# Altium schematic symbol library Ferrite Chip.SchLib: 462 symbols (part 7 of 7)
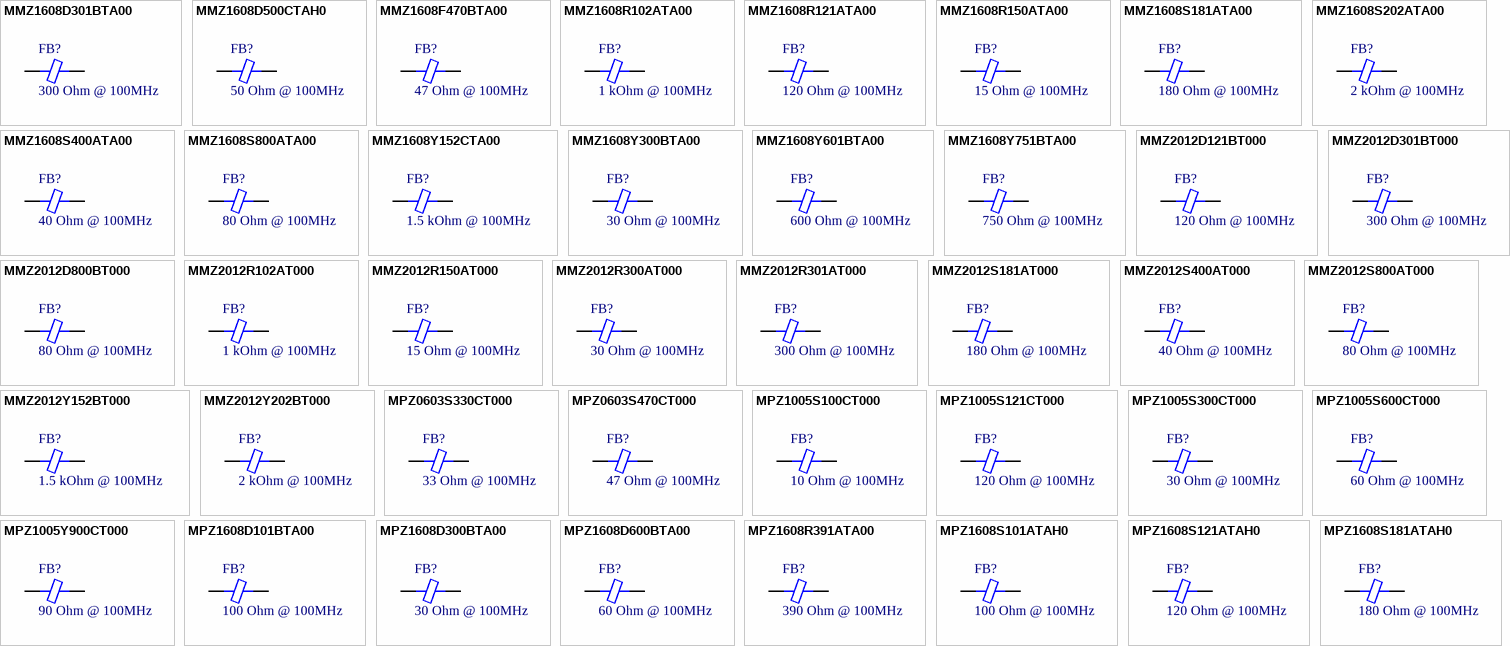
[diagram p17: symbols MMZ1608D301BTA00 to MPZ1608S181ATAH0]

## MMZ2012R150AT000
designator FB?, comment 15 Ohm @ 100MHz
FERRITE CHIP 15 OHM 0805; Part Number: MMZ2012R150AT000; Manufacturer: TDK Corporation; Type: Differential Mode - Single; DC Resistance: 50 mOhm Max; Current Rating: 1.5A; PartId: 6803; Value: 15 Ohm @ 100MHz; Supplier 1: Digi-Key; Supplier Part Number 1: 445-2198-2-ND; ComponentLink1Description: Datasheet; ComponentLink1URL: https://product.tdk.com/info/en/catalog/datasheets/beads_commercial_signal_mmz2012_en.pdf; ComponentLink2Description: Digi-Key listing; ComponentLink2URL: http://digikey.com/product-detail/en/MMZ2012R150AT000/445-2198-2-ND/765057; Price: 0.0344; Device Package: 0805 (2012 Metric)
footprint FER 0805/2012
pins: 1, 2

## MMZ2012R300AT000
designator FB?, comment 30 Ohm @ 100MHz
FERRITE CHIP 30 OHM 0805; Part Number: MMZ2012R300AT000; Manufacturer: TDK Corporation; Type: Differential Mode - Single; DC Resistance: 50 mOhm Max; Current Rating: 1.5A; PartId: 6802; Value: 30 Ohm @ 100MHz; Supplier 1: Digi-Key; Supplier Part Number 1: 445-2199-2-ND; ComponentLink1Description: Datasheet; ComponentLink1URL: https://product.tdk.com/info/en/catalog/datasheets/beads_commercial_signal_mmz2012_en.pdf; ComponentLink2Description: Digi-Key listing; ComponentLink2URL: http://digikey.com/product-detail/en/MMZ2012R300AT000/445-2199-2-ND/765058; Price: 0.0344; Device Package: 0805 (2012 Metric)
footprint FER 0805/2012
pins: 1, 2

## MMZ2012R301AT000
designator FB?, comment 300 Ohm @ 100MHz
FERRITE CHIP 300 OHM 600MA 0805; Part Number: MMZ2012R301AT000; Manufacturer: TDK Corporation; Type: Differential Mode - Single; DC Resistance: 150 mOhm Max; PartId: 6797; Value: 300 Ohm @ 100MHz; Supplier 1: Digi-Key; Supplier Part Number 1: 445-2191-2-ND; ComponentLink1Description: Datasheet; ComponentLink1URL: https://product.tdk.com/info/en/catalog/datasheets/beads_commercial_signal_mmz2012_en.pdf; ComponentLink2Description: Digi-Key listing; ComponentLink2URL: http://digikey.com/product-detail/en/MMZ2012R301AT000/445-2191-2-ND/600549; Price: 0.0344; Device Package: 0805 (2012 Metric); Current Rating: 600mA
footprint FER 0805/2012
pins: 1, 2

## MMZ2012S181AT000
designator FB?, comment 180 Ohm @ 100MHz
FERRITE CHIP 180 OHM 600MA 0805; Part Number: MMZ2012S181AT000; Manufacturer: TDK Corporation; Type: Differential Mode - Single; DC Resistance: 150 mOhm Max; PartId: 6805; Value: 180 Ohm @ 100MHz; Supplier 1: Digi-Key; Supplier Part Number 1: 445-2194-2-ND; ComponentLink1Description: Datasheet; ComponentLink1URL: https://product.tdk.com/info/en/catalog/datasheets/beads_commercial_signal_mmz2012_en.pdf; ComponentLink2Description: Digi-Key listing; ComponentLink2URL: http://digikey.com/product-detail/en/MMZ2012S181AT000/445-2194-2-ND/600551; Price: 0.0344; Device Package: 0805 (2012 Metric); Current Rating: 600mA
footprint FER 0805/2012
pins: 1, 2

## MMZ2012S400AT000
designator FB?, comment 40 Ohm @ 100MHz
FERRITE CHIP 40 OHM 0805; Part Number: MMZ2012S400AT000; Manufacturer: TDK Corporation; Type: Differential Mode - Single; DC Resistance: 100 mOhm Max; Current Rating: 1A; PartId: 6800; Value: 40 Ohm @ 100MHz; Supplier 1: Digi-Key; Supplier Part Number 1: 445-2201-2-ND; ComponentLink1Description: Datasheet; ComponentLink1URL: https://product.tdk.com/info/en/catalog/datasheets/beads_commercial_signal_mmz2012_en.pdf; ComponentLink2Description: Digi-Key listing; ComponentLink2URL: http://digikey.com/product-detail/en/MMZ2012S400AT000/445-2201-2-ND/765060; Price: 0.0344; Device Package: 0805 (2012 Metric)
footprint FER 0805/2012
pins: 1, 2

## MMZ2012S800AT000
designator FB?, comment 80 Ohm @ 100MHz
FERRITE CHIP 80 OHM 800MA 0805; Part Number: MMZ2012S800AT000; Manufacturer: TDK Corporation; Type: Differential Mode - Single; DC Resistance: 100 mOhm Max; PartId: 6804; Value: 80 Ohm @ 100MHz; Supplier 1: Digi-Key; Supplier Part Number 1: 445-2192-2-ND; ComponentLink1Description: Datasheet; ComponentLink1URL: https://product.tdk.com/info/en/catalog/datasheets/beads_commercial_signal_mmz2012_en.pdf; ComponentLink2Description: Digi-Key listing; ComponentLink2URL: http://digikey.com/product-detail/en/MMZ2012S800AT000/445-2192-2-ND/600553; Price: 0.0344; Device Package: 0805 (2012 Metric); Current Rating: 800mA
footprint FER 0805/2012
pins: 1, 2

## MMZ2012Y152BT000
designator FB?, comment 1.5 kOhm @ 100MHz
FERRITE CHIP 1500 OHM 500MA 0805; Part Number: MMZ2012Y152BT000; Manufacturer: TDK Corporation; Type: Differential Mode - Single; DC Resistance: 400 mOhm Max; PartId: 6801; Value: 1.5 kOhm @ 100MHz; Supplier 1: Digi-Key; Supplier Part Number 1: 445-1560-2-ND; ComponentLink1Description: Datasheet; ComponentLink1URL: https://product.tdk.com/info/en/catalog/datasheets/beads_commercial_signal_mmz2012_en.pdf; ComponentLink2Description: Digi-Key listing; ComponentLink2URL: http://digikey.com/product-detail/en/MMZ2012Y152BT000/445-1560-2-ND/571867; Price: 0.0344; Device Package: 0805 (2012 Metric); Current Rating: 500mA
footprint FER 0805/2012
pins: 1, 2

## MMZ2012Y202BT000
designator FB?, comment 2 kOhm @ 100MHz
FERRITE CHIP 2000 OHM 400MA 0805; Part Number: MMZ2012Y202BT000; Manufacturer: TDK Corporation; Type: Differential Mode - Single; DC Resistance: 500 mOhm Max; PartId: 6798; Value: 2 kOhm @ 100MHz; Supplier 1: Digi-Key; Supplier Part Number 1: 445-1561-2-ND; ComponentLink1Description: Datasheet; ComponentLink1URL: https://product.tdk.com/info/en/catalog/datasheets/beads_commercial_signal_mmz2012_en.pdf; ComponentLink2Description: Digi-Key listing; ComponentLink2URL: http://digikey.com/product-detail/en/MMZ2012Y202BT000/445-1561-2-ND/571868; Price: 0.0344; Device Package: 0805 (2012 Metric); Current Rating: 400mA
footprint FER 0805/2012
pins: 1, 2

## MPZ0603S330CT000
designator FB?, comment 33 Ohm @ 100MHz
FERRITE BEAD 33 OHM 0201 1LN; Part Number: MPZ0603S330CT000; Manufacturer: TDK Corporation; DC Resistance: 90 mOhm; Current Rating: 750mA; PartId: 20395; Value: 33 Ohm @ 100MHz; Supplier 1: Digi-Key; Supplier Part Number 1: 445-7794-2-ND; ComponentLink1Description: Datasheet; ComponentLink1URL: https://product.tdk.com/info/en/catalog/datasheets/beads_commercial_power_mpz0603_en.pdf; ComponentLink2Description: Digi-Key Listing; ComponentLink2URL: https://www.digikey.com/product-detail/en/tdk-corporation/MPZ0603S330CT000/445-7794-2-ND/2747664; Price: 0.0367; Device Package: 0201 (0603 Metric)
footprint FER 0201/0603
pins: 1, 2

## MPZ0603S470CT000
designator FB?, comment 47 Ohm @ 100MHz
FERRITE BEAD 47 OHM 0201 1LN; Part Number: MPZ0603S470CT000; Manufacturer: TDK Corporation; DC Resistance: 120 mOhm; Current Rating: 500mA; PartId: 20378; Value: 47 Ohm @ 100MHz; Supplier 1: Digi-Key; Supplier Part Number 1: 445-7795-2-ND; ComponentLink1Description: Datasheet; ComponentLink1URL: https://product.tdk.com/info/en/catalog/datasheets/beads_commercial_power_mpz0603_en.pdf; ComponentLink2Description: Digi-Key Listing; ComponentLink2URL: https://www.digikey.com/product-detail/en/tdk-corporation/MPZ0603S470CT000/445-7795-2-ND/2747665; Price: 0.0367; Device Package: 0201 (0603 Metric)
footprint FER 0201/0603
pins: 1, 2

## MPZ1005S100CT000
designator FB?, comment 10 Ohm @ 100MHz
FERRITE CHIP 10 OHM 2A 0402; Part Number: MPZ1005S100CT000; Manufacturer: TDK Corporation; Type: Differential Mode - Single; DC Resistance: 25 mOhm Max; PartId: 6503; Value: 10 Ohm @ 100MHz; Supplier 1: Digi-Key; Supplier Part Number 1: 445-2978-2-ND; ComponentLink1Description: Datasheet; ComponentLink1URL: https://product.tdk.com/info/en/catalog/datasheets/beads_commercial_power_mpz1005_en.pdf; ComponentLink2Description: Digi-Key listing; ComponentLink2URL: http://digikey.com/product-detail/en/MPZ1005S100CT000/445-2978-2-ND/1084510; Price: 0.0301; Device Package: 0402 (1005 Metric); Current Rating: 2A
footprint FER 0402/1005
pins: 1, 2

## MPZ1005S121CT000
designator FB?, comment 120 Ohm @ 100MHz
FERRITE CHIP 120 OHM 1.2A 0402; Part Number: MPZ1005S121CT000; Manufacturer: TDK Corporation; Type: Differential Mode - Single; DC Resistance: 90 mOhm Max; PartId: 6501; Value: 120 Ohm @ 100MHz; Supplier 1: Digi-Key; Supplier Part Number 1: 445-2981-2-ND; ComponentLink1Description: Datasheet; ComponentLink1URL: https://product.tdk.com/info/en/catalog/datasheets/beads_commercial_power_mpz1005_en.pdf; ComponentLink2Description: Digi-Key listing; ComponentLink2URL: http://digikey.com/product-detail/en/MPZ1005S121CT000/445-2981-2-ND/1084513; Price: 0.0301; Device Package: 0402 (1005 Metric); Current Rating: 1.2A
footprint FER 0402/1005
pins: 1, 2

## MPZ1005S300CT000
designator FB?, comment 30 Ohm @ 100MHz
FERRITE CHIP 30 OHM 1.7A 0402; Part Number: MPZ1005S300CT000; Manufacturer: TDK Corporation; Type: Differential Mode - Single; DC Resistance: 35 mOhm Max; PartId: 6502; Value: 30 Ohm @ 100MHz; Supplier 1: Digi-Key; Supplier Part Number 1: 445-2979-2-ND; ComponentLink1Description: Datasheet; ComponentLink1URL: https://product.tdk.com/info/en/catalog/datasheets/beads_commercial_power_mpz1005_en.pdf; ComponentLink2Description: Digi-Key listing; ComponentLink2URL: http://digikey.com/product-detail/en/MPZ1005S300CT000/445-2979-2-ND/1084511; Price: 0.0301; Device Package: 0402 (1005 Metric); Current Rating: 1.7A
footprint FER 0402/1005
pins: 1, 2

## MPZ1005S600CT000
designator FB?, comment 60 Ohm @ 100MHz
FERRITE CHIP 60 OHM 1.5A 0402; Part Number: MPZ1005S600CT000; Manufacturer: TDK Corporation; Type: Differential Mode - Single; DC Resistance: 60 mOhm Max; PartId: 6505; Value: 60 Ohm @ 100MHz; Supplier 1: Digi-Key; Supplier Part Number 1: 445-2980-2-ND; ComponentLink1Description: Datasheet; ComponentLink1URL: https://product.tdk.com/info/en/catalog/datasheets/beads_commercial_power_mpz1005_en.pdf; ComponentLink2Description: Digi-Key listing; ComponentLink2URL: http://digikey.com/product-detail/en/MPZ1005S600CT000/445-2980-2-ND/1084512; Price: 0.0301; Device Package: 0402 (1005 Metric); Current Rating: 1.5A
footprint FER 0402/1005
pins: 1, 2

## MPZ1005Y900CT000
designator FB?, comment 90 Ohm @ 100MHz
FERRITE CHIP 90 OHM 1.2A 0402; Part Number: MPZ1005Y900CT000; Manufacturer: TDK Corporation; Type: Differential Mode - Single; DC Resistance: 100 mOhm Max; PartId: 6507; Value: 90 Ohm @ 100MHz; Supplier 1: Digi-Key; Supplier Part Number 1: 445-8693-2-ND; ComponentLink1Description: Datasheet; ComponentLink1URL: https://product.tdk.com/info/en/catalog/datasheets/beads_commercial_power_mpz1005_en.pdf; ComponentLink2Description: Digi-Key listing; ComponentLink2URL: http://digikey.com/product-detail/en/MPZ1005Y900CT000/445-8693-2-ND/3078618; Price: 0.0301; Device Package: 0402 (1005 Metric); Current Rating: 1.2A
footprint FER 0402/1005
pins: 1, 2

## MPZ1608D101BTA00
designator FB?, comment 100 Ohm @ 100MHz
FERRITE CHIP 100 OHM 1A 0603; Part Number: MPZ1608D101BTA00; Manufacturer: TDK Corporation; Type: Differential Mode - Single; DC Resistance: 150 mOhm Max; PartId: 6633; Value: 100 Ohm @ 100MHz; Supplier 1: Digi-Key; Supplier Part Number 1: 445-2988-2-ND; ComponentLink1Description: Datasheet; ComponentLink1URL: https://product.tdk.com/info/en/catalog/datasheets/beads_commercial_power_mpz1608_en.pdf; ComponentLink2Description: Digi-Key listing; ComponentLink2URL: http://digikey.com/product-detail/en/MPZ1608D101BTA00/445-2988-2-ND/1084520; Price: 0.0298; Device Package: 0603 (1608 Metric); Current Rating: 1A
footprint FER 0603/1608
pins: 1, 2

## MPZ1608D300BTA00
designator FB?, comment 30 Ohm @ 100MHz
FERRITE CHIP 30 OHM 1.8A 0603; Part Number: MPZ1608D300BTA00; Manufacturer: TDK Corporation; Type: Differential Mode - Single; DC Resistance: 60 mOhm Max; PartId: 6648; Value: 30 Ohm @ 100MHz; Supplier 1: Digi-Key; Supplier Part Number 1: 445-2986-2-ND; ComponentLink1Description: Datasheet; ComponentLink1URL: https://product.tdk.com/info/en/catalog/datasheets/beads_commercial_power_mpz1608_en.pdf; ComponentLink2Description: Digi-Key listing; ComponentLink2URL: http://digikey.com/product-detail/en/MPZ1608D300BTA00/445-2986-2-ND/1084518; Price: 0.0298; Device Package: 0603 (1608 Metric); Current Rating: 1.8A
footprint FER 0603/1608
pins: 1, 2

## MPZ1608D600BTA00
designator FB?, comment 60 Ohm @ 100MHz
FERRITE CHIP 60 OHM 1.2A 0603; Part Number: MPZ1608D600BTA00; Manufacturer: TDK Corporation; Type: Differential Mode - Single; DC Resistance: 100 mOhm Max; PartId: 6639; Value: 60 Ohm @ 100MHz; Supplier 1: Digi-Key; Supplier Part Number 1: 445-2987-2-ND; ComponentLink1Description: Datasheet; ComponentLink1URL: https://product.tdk.com/info/en/catalog/datasheets/beads_commercial_power_mpz1608_en.pdf; ComponentLink2Description: Digi-Key listing; ComponentLink2URL: http://digikey.com/product-detail/en/MPZ1608D600BTA00/445-2987-2-ND/1084519; Price: 0.0298; Device Package: 0603 (1608 Metric); Current Rating: 1.2A
footprint FER 0603/1608
pins: 1, 2

## MPZ1608R391ATA00
designator FB?, comment 390 Ohm @ 100MHz
FERRITE CHIP 390 OHM 1.2A 0603; Part Number: MPZ1608R391ATA00; Manufacturer: TDK Corporation; Type: Differential Mode - Single; DC Resistance: 120 mOhm Max; PartId: 6636; Value: 390 Ohm @ 100MHz; Supplier 1: Digi-Key; Supplier Part Number 1: 445-2982-2-ND; ComponentLink1Description: Datasheet; ComponentLink1URL: https://product.tdk.com/info/en/catalog/datasheets/beads_commercial_power_mpz1608_en.pdf; ComponentLink2Description: Digi-Key listing; ComponentLink2URL: http://digikey.com/product-detail/en/MPZ1608R391ATA00/445-2982-2-ND/1084514; Price: 0.0298; Device Package: 0603 (1608 Metric); Current Rating: 1.2A
footprint FER 0603/1608
pins: 1, 2

## MPZ1608S101ATAH0
designator FB?, comment 100 Ohm @ 100MHz
FERRITE CHIP 100 OHM 3A 0603; Part Number: MPZ1608S101ATAH0; Manufacturer: TDK Corporation; Type: Differential Mode - Single; DC Resistance: 30 mOhm Max; PartId: 6634; Value: 100 Ohm @ 100MHz; Supplier 1: Digi-Key; Supplier Part Number 1: 445-1564-2-ND; ComponentLink1Description: Datasheet; ComponentLink1URL: https://product.tdk.com/info/en/catalog/datasheets/beads_commercial_power_mpz1608_en.pdf; ComponentLink2Description: Digi-Key listing; ComponentLink2URL: http://digikey.com/product-detail/en/MPZ1608S101ATAH0/445-1564-2-ND/571871; Price: 0.0298; Device Package: 0603 (1608 Metric); Current Rating: 3A
footprint FER 0603/1608
pins: 1, 2

## MPZ1608S121ATAH0
designator FB?, comment 120 Ohm @ 100MHz
FERRITE CHIP 120 OHM 2A 0603; Part Number: MPZ1608S121ATAH0; Manufacturer: TDK Corporation; Type: Differential Mode - Single; DC Resistance: 45 mOhm Max; PartId: 6643; Value: 120 Ohm @ 100MHz; Supplier 1: Digi-Key; Supplier Part Number 1: 445-5219-2-ND; ComponentLink1Description: Datasheet; ComponentLink1URL: https://product.tdk.com/info/en/catalog/datasheets/beads_commercial_power_mpz1608_en.pdf; ComponentLink2Description: Digi-Key listing; ComponentLink2URL: http://digikey.com/product-detail/en/MPZ1608S121ATAH0/445-5219-2-ND/2117943; Price: 0.0298; Device Package: 0603 (1608 Metric); Current Rating: 2A
footprint FER 0603/1608
pins: 1, 2

## MPZ1608S181ATAH0
designator FB?, comment 180 Ohm @ 100MHz
FERRITE CHIP 180 OHM 2A 0603; Part Number: MPZ1608S181ATAH0; Manufacturer: TDK Corporation; Type: Differential Mode - Single; DC Resistance: 50 mOhm Max; PartId: 6647; Value: 180 Ohm @ 100MHz; Supplier 1: Digi-Key; Supplier Part Number 1: 445-5220-2-ND; ComponentLink1Description: Datasheet; ComponentLink1URL: https://product.tdk.com/info/en/catalog/datasheets/beads_commercial_power_mpz1608_en.pdf; ComponentLink2Description: Digi-Key listing; ComponentLink2URL: http://digikey.com/product-detail/en/MPZ1608S181ATAH0/445-5220-2-ND/2117944; Price: 0.0298; Device Package: 0603 (1608 Metric); Current Rating: 2A
footprint FER 0603/1608
pins: 1, 2

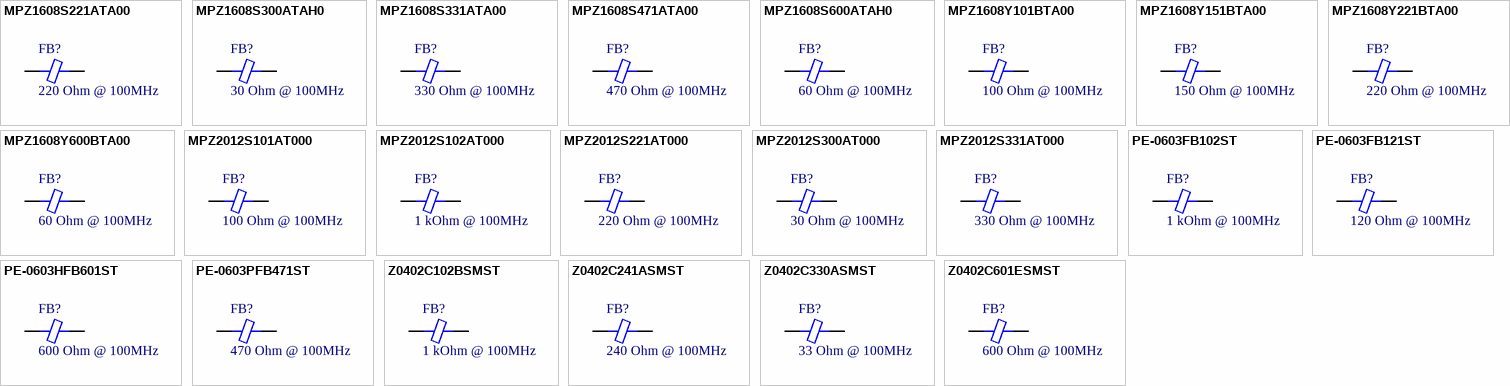
[diagram p11: symbols MPZ1608S221ATA00 to Z0402C601ESMST]

## MPZ1608S221ATA00
designator FB?, comment 220 Ohm @ 100MHz
FERRITE CHIP 220 OHM 2A 0603; Part Number: MPZ1608S221ATA00; Manufacturer: TDK Corporation; Type: Differential Mode - Single; DC Resistance: 50 mOhm Max; Current Rating: 2.2A; PartId: 6632; Value: 220 Ohm @ 100MHz; Supplier 1: Digi-Key; Supplier Part Number 1: 445-1565-2-ND; ComponentLink1Description: Datasheet; ComponentLink1URL: https://product.tdk.com/info/en/catalog/datasheets/beads_commercial_power_mpz1608_en.pdf; ComponentLink2Description: Digi-Key listing; ComponentLink2URL: http://digikey.com/product-detail/en/MPZ1608S221ATA00/445-1565-2-ND/571872; Price: 0.0298; Device Package: 0603 (1608 Metric)
footprint FER 0603/1608
pins: 1, 2

## MPZ1608S300ATAH0
designator FB?, comment 30 Ohm @ 100MHz
FERRITE CHIP 30 OHM 5A 0603; Part Number: MPZ1608S300ATAH0; Manufacturer: TDK Corporation; Type: Differential Mode - Single; DC Resistance: 10 mOhm Max; PartId: 6638; Value: 30 Ohm @ 100MHz; Supplier 1: Digi-Key; Supplier Part Number 1: 445-1562-2-ND; ComponentLink1Description: Datasheet; ComponentLink1URL: https://product.tdk.com/info/en/catalog/datasheets/beads_commercial_power_mpz1608_en.pdf; ComponentLink2Description: Digi-Key listing; ComponentLink2URL: http://digikey.com/product-detail/en/MPZ1608S300ATAH0/445-1562-2-ND/571869; Price: 0.0298; Device Package: 0603 (1608 Metric); Current Rating: 5A
footprint FER 0603/1608
pins: 1, 2

## MPZ1608S331ATA00
designator FB?, comment 330 Ohm @ 100MHz
FERRITE CHIP 330 OHM 1.7A 0603; Part Number: MPZ1608S331ATA00; Manufacturer: TDK Corporation; Type: Differential Mode - Single; DC Resistance: 80 mOhm Max; PartId: 6635; Value: 330 Ohm @ 100MHz; Supplier 1: Digi-Key; Supplier Part Number 1: 445-5221-2-ND; ComponentLink1Description: Datasheet; ComponentLink1URL: https://product.tdk.com/info/en/catalog/datasheets/beads_commercial_power_mpz1608_en.pdf; ComponentLink2Description: Digi-Key listing; ComponentLink2URL: http://digikey.com/product-detail/en/MPZ1608S331ATA00/445-5221-2-ND/2117945; Price: 0.0298; Device Package: 0603 (1608 Metric); Current Rating: 1.7A
footprint FER 0603/1608
pins: 1, 2

## MPZ1608S471ATA00
designator FB?, comment 470 Ohm @ 100MHz
FERRITE CHIP 470 OHM 1A 0603; Part Number: MPZ1608S471ATA00; Manufacturer: TDK Corporation; Type: Differential Mode - Single; DC Resistance: 150 mOhm Max; PartId: 6645; Value: 470 Ohm @ 100MHz; Supplier 1: Digi-Key; Supplier Part Number 1: 445-5222-2-ND; ComponentLink1Description: Datasheet; ComponentLink1URL: https://product.tdk.com/info/en/catalog/datasheets/beads_commercial_power_mpz1608_en.pdf; ComponentLink2Description: Digi-Key listing; ComponentLink2URL: http://digikey.com/product-detail/en/MPZ1608S471ATA00/445-5222-2-ND/2117946; Price: 0.0298; Device Package: 0603 (1608 Metric); Current Rating: 1A
footprint FER 0603/1608
pins: 1, 2

## MPZ1608S600ATAH0
designator FB?, comment 60 Ohm @ 100MHz
FERRITE CHIP 60 OHM 3.5A 0603; Part Number: MPZ1608S600ATAH0; Manufacturer: TDK Corporation; Type: Differential Mode - Single; DC Resistance: 20 mOhm Max; PartId: 6637; Value: 60 Ohm @ 100MHz; Supplier 1: Digi-Key; Supplier Part Number 1: 445-1563-2-ND; ComponentLink1Description: Datasheet; ComponentLink1URL: https://product.tdk.com/info/en/catalog/datasheets/beads_commercial_power_mpz1608_en.pdf; ComponentLink2Description: Digi-Key listing; ComponentLink2URL: http://digikey.com/product-detail/en/MPZ1608S600ATAH0/445-1563-2-ND/571870; Price: 0.0298; Device Package: 0603 (1608 Metric); Current Rating: 3.5A
footprint FER 0603/1608
pins: 1, 2

## MPZ1608Y101BTA00
designator FB?, comment 100 Ohm @ 100MHz
FERRITE CHIP 100 OHM 2A 0603; Part Number: MPZ1608Y101BTA00; Manufacturer: TDK Corporation; Type: Differential Mode - Single; DC Resistance: 40 mOhm Max; PartId: 6640; Value: 100 Ohm @ 100MHz; Supplier 1: Digi-Key; Supplier Part Number 1: 445-2984-2-ND; ComponentLink1Description: Datasheet; ComponentLink1URL: https://product.tdk.com/info/en/catalog/datasheets/beads_commercial_power_mpz1608_en.pdf; ComponentLink2Description: Digi-Key listing; ComponentLink2URL: http://digikey.com/product-detail/en/MPZ1608Y101BTA00/445-2984-2-ND/1084516; Price: 0.0298; Device Package: 0603 (1608 Metric); Current Rating: 2A
footprint FER 0603/1608
pins: 1, 2

## MPZ1608Y151BTA00
designator FB?, comment 150 Ohm @ 100MHz
FERRITE CHIP 150 OHM 1.8A 0603; Part Number: MPZ1608Y151BTA00; Manufacturer: TDK Corporation; Type: Differential Mode - Single; DC Resistance: 50 mOhm Max; PartId: 6641; Value: 150 Ohm @ 100MHz; Supplier 1: Digi-Key; Supplier Part Number 1: 445-2985-2-ND; ComponentLink1Description: Datasheet; ComponentLink1URL: https://product.tdk.com/info/en/catalog/datasheets/beads_commercial_power_mpz1608_en.pdf; ComponentLink2Description: Digi-Key listing; ComponentLink2URL: http://digikey.com/product-detail/en/MPZ1608Y151BTA00/445-2985-2-ND/1084517; Price: 0.0298; Device Package: 0603 (1608 Metric); Current Rating: 1.8A
footprint FER 0603/1608
pins: 1, 2

## MPZ1608Y221BTA00
designator FB?, comment 220 Ohm @ 100MHz
FERRITE CHIP 220 OHM 1.5A 0603; Part Number: MPZ1608Y221BTA00; Manufacturer: TDK Corporation; Type: Differential Mode - Single; DC Resistance: 100 mOhm Max; PartId: 6646; Value: 220 Ohm @ 100MHz; Supplier 1: Digi-Key; Supplier Part Number 1: 445-8695-2-ND; ComponentLink1Description: Datasheet; ComponentLink1URL: https://product.tdk.com/info/en/catalog/datasheets/beads_commercial_power_mpz1608_en.pdf; ComponentLink2Description: Digi-Key listing; ComponentLink2URL: http://digikey.com/product-detail/en/MPZ1608Y221BTA00/445-8695-2-ND/3078622; Price: 0.0298; Device Package: 0603 (1608 Metric); Current Rating: 1.5A
footprint FER 0603/1608
pins: 1, 2

## MPZ1608Y600BTA00
designator FB?, comment 60 Ohm @ 100MHz
FERRITE CHIP 60 OHM 2.3A 0603; Part Number: MPZ1608Y600BTA00; Manufacturer: TDK Corporation; Type: Differential Mode - Single; DC Resistance: 30 mOhm Max; PartId: 6642; Value: 60 Ohm @ 100MHz; Supplier 1: Digi-Key; Supplier Part Number 1: 445-2983-2-ND; ComponentLink1Description: Datasheet; ComponentLink1URL: https://product.tdk.com/info/en/catalog/datasheets/beads_commercial_power_mpz1608_en.pdf; ComponentLink2Description: Digi-Key listing; ComponentLink2URL: http://digikey.com/product-detail/en/MPZ1608Y600BTA00/445-2983-2-ND/1084515; Price: 0.0298; Device Package: 0603 (1608 Metric); Current Rating: 2.3A
footprint FER 0603/1608
pins: 1, 2

## MPZ2012S101AT000
designator FB?, comment 100 Ohm @ 100MHz
FERRITE CHIP 100 OHM 4A 0805; Part Number: MPZ2012S101AT000; Manufacturer: TDK Corporation; Type: Differential Mode - Single; DC Resistance: 20 mOhm Max; PartId: 6819; Value: 100 Ohm @ 100MHz; Supplier 1: Digi-Key; Supplier Part Number 1: 445-1567-2-ND; ComponentLink1Description: Datasheet; ComponentLink1URL: https://product.tdk.com/info/en/catalog/datasheets/beads_commercial_power_mpz2012_en.pdf; ComponentLink2Description: Digi-Key listing; ComponentLink2URL: http://digikey.com/product-detail/en/MPZ2012S101AT000/445-1567-2-ND/571874; Price: 0.0394; Device Package: 0805 (2012 Metric); Current Rating: 4A
footprint FER 0805/2012
pins: 1, 2

## MPZ2012S102AT000
designator FB?, comment 1 kOhm @ 100MHz
FERRITE CHIP 1000 OHM 1.5A 0805; Part Number: MPZ2012S102AT000; Manufacturer: TDK Corporation; Type: Differential Mode - Single; DC Resistance: 150 mOhm Max; PartId: 6822; Value: 1 kOhm @ 100MHz; Supplier 1: Digi-Key; Supplier Part Number 1: 445-5223-2-ND; ComponentLink1Description: Datasheet; ComponentLink1URL: https://product.tdk.com/info/en/catalog/datasheets/beads_commercial_power_mpz2012_en.pdf; ComponentLink2Description: Digi-Key listing; ComponentLink2URL: http://digikey.com/product-detail/en/MPZ2012S102AT000/445-5223-2-ND/2117947; Price: 0.0394; Device Package: 0805 (2012 Metric); Current Rating: 1.5A
footprint FER 0805/2012
pins: 1, 2

## MPZ2012S221AT000
designator FB?, comment 220 Ohm @ 100MHz
FERRITE CHIP 220 OHM 3A 0805; Part Number: MPZ2012S221AT000; Manufacturer: TDK Corporation; Type: Differential Mode - Single; DC Resistance: 40 mOhm Max; PartId: 6821; Value: 220 Ohm @ 100MHz; Supplier 1: Digi-Key; Supplier Part Number 1: 445-1568-2-ND; ComponentLink1Description: Datasheet; ComponentLink1URL: https://product.tdk.com/info/en/catalog/datasheets/beads_commercial_power_mpz2012_en.pdf; ComponentLink2Description: Digi-Key listing; ComponentLink2URL: http://digikey.com/product-detail/en/MPZ2012S221AT000/445-1568-2-ND/571875; Price: 0.0394; Device Package: 0805 (2012 Metric); Current Rating: 3A
footprint FER 0805/2012
pins: 1, 2

## MPZ2012S300AT000
designator FB?, comment 30 Ohm @ 100MHz
FERRITE CHIP 30 OHM 6A 0805; Part Number: MPZ2012S300AT000; Manufacturer: TDK Corporation; Type: Differential Mode - Single; DC Resistance: 10 mOhm Max; PartId: 6820; Value: 30 Ohm @ 100MHz; Supplier 1: Digi-Key; Supplier Part Number 1: 445-1566-2-ND; ComponentLink1Description: Datasheet; ComponentLink1URL: https://product.tdk.com/info/en/catalog/datasheets/beads_commercial_power_mpz2012_en.pdf; ComponentLink2Description: Digi-Key listing; ComponentLink2URL: http://digikey.com/product-detail/en/MPZ2012S300AT000/445-1566-2-ND/571873; Price: 0.0394; Device Package: 0805 (2012 Metric); Current Rating: 6A
footprint FER 0805/2012
pins: 1, 2

## MPZ2012S331AT000
designator FB?, comment 330 Ohm @ 100MHz
FERRITE CHIP 330 OHM 2.5A 0805; Part Number: MPZ2012S331AT000; Manufacturer: TDK Corporation; Type: Differential Mode - Single; DC Resistance: 50 mOhm Max; PartId: 6818; Value: 330 Ohm @ 100MHz; Supplier 1: Digi-Key; Supplier Part Number 1: 445-1569-2-ND; ComponentLink1Description: Datasheet; ComponentLink1URL: https://product.tdk.com/info/en/catalog/datasheets/beads_commercial_power_mpz2012_en.pdf; ComponentLink2Description: Digi-Key listing; ComponentLink2URL: http://digikey.com/product-detail/en/MPZ2012S331AT000/445-1569-2-ND/571876; Price: 0.0394; Device Package: 0805 (2012 Metric); Current Rating: 2.5A
footprint FER 0805/2012
pins: 1, 2

## PE-0603FB102ST
designator FB?, comment 1 kOhm @ 100MHz
FERRITE CHIP 0603 1000 OHM; Part Number: PE-0603FB102ST; Manufacturer: Pulse Electronics Corporation; Type: Signal Line; DC Resistance: 500 mOhm; Current Rating: 400mA; PartId: 6577; Value: 1 kOhm @ 100MHz; Supplier 1: Digi-Key; Supplier Part Number 1: 553-2381-2-ND; ComponentLink1Description: Datasheet; ComponentLink1URL: http://productfinder.pulseeng.com/products/datasheets/WC706.pdf; ComponentLink2Description: Digi-Key listing; ComponentLink2URL: http://digikey.com/product-detail/en/PE-0603FB102ST/553-2381-2-ND/5050538; Price: 0.0115; Device Package: 0603 (1608 Metric)
footprint FER 0603/1608
pins: 1, 2

## PE-0603FB121ST
designator FB?, comment 120 Ohm @ 100MHz
FERRITE CHIP 0603 120 OHM; Part Number: PE-0603FB121ST; Manufacturer: Pulse Electronics Corporation; Type: Signal Line; DC Resistance: 180 mOhm; Current Rating: 500mA; PartId: 6576; Value: 120 Ohm @ 100MHz; Supplier 1: Digi-Key; Supplier Part Number 1: 553-2382-2-ND; ComponentLink1Description: Datasheet; ComponentLink1URL: http://productfinder.pulseeng.com/products/datasheets/WC706.pdf; ComponentLink2Description: Digi-Key listing; ComponentLink2URL: http://digikey.com/product-detail/en/PE-0603FB121ST/553-2382-2-ND/5050539; Price: 0.0115; Device Package: 0603 (1608 Metric)
footprint FER 0603/1608
pins: 1, 2

## PE-0603HFB601ST
designator FB?, comment 600 Ohm @ 100MHz
FERRITE CHIP 0603 600 OHM; Part Number: PE-0603HFB601ST; Manufacturer: Pulse Electronics Corporation; Type: Signal Line; DC Resistance: 350 mOhm Max; Current Rating: 500mA; PartId: 6719; Value: 600 Ohm @ 100MHz; Supplier 1: Digi-Key; Supplier Part Number 1: 553-2386-2-ND; ComponentLink1Description: Datasheet; ComponentLink1URL: http://productfinder.pulseeng.com/products/datasheets/WC706.pdf; ComponentLink2Description: Digi-Key listing; ComponentLink2URL: http://digikey.com/product-detail/en/PE-0603HFB601ST/553-2386-2-ND/5050543; Price: 0.0344; Device Package: 0603 (1608 Metric)
footprint FER 0603/1608
pins: 1, 2

## PE-0603PFB471ST
designator FB?, comment 470 Ohm @ 100MHz
FERRITE CHIP 0805 470 OHM; Part Number: PE-0603PFB471ST; Manufacturer: Pulse Electronics Corporation; Type: Power Line; DC Resistance: 200 mOhm; Current Rating: 1A; PartId: 6581; Value: 470 Ohm @ 100MHz; Supplier 1: Digi-Key; Supplier Part Number 1: 553-2389-2-ND; ComponentLink1Description: Datasheet; ComponentLink1URL: http://productfinder.pulseeng.com/products/datasheets/WC706.pdf; ComponentLink2Description: Digi-Key listing; ComponentLink2URL: http://digikey.com/product-detail/en/PE-0603PFB471ST/553-2389-2-ND/5050546; Price: 0.0143; Device Package: 0603 (1608 Metric)
footprint FER 0603/1608
pins: 1, 2

## Z0402C102BSMST
designator FB?, comment 1 kOhm @ 100MHz
FERRITE CHIP 1 KOHM 150MA 0402; Part Number: Z0402C102BSMST; Manufacturer: Kemet; Type: Differential Mode - Single; DC Resistance: 800 mOhm Max; PartId: 6540; Value: 1 kOhm @ 100MHz; Supplier 1: Digi-Key; Supplier Part Number 1: 399-9602-2-ND; ComponentLink1Description: Datasheet; ComponentLink1URL: http://www.kemet.com/Lists/ProductCatalog/Attachments/57/F3115.pdf; ComponentLink2Description: Digi-Key listing; ComponentLink2URL: http://digikey.com/product-detail/en/Z0402C102BSMST/399-9602-2-ND/3674006; Price: 0.0421; Device Package: 0402 (1005 Metric); Current Rating: 150mA
footprint FER 0402/1005
pins: 1, 2

## Z0402C241ASMST
designator FB?, comment 240 Ohm @ 100MHz
FERRITE CHIP 240 OHM 400MA 0402; Part Number: Z0402C241ASMST; Manufacturer: Kemet; Type: Differential Mode - Single; DC Resistance: 330 mOhm Max; PartId: 6541; Value: 240 Ohm @ 100MHz; Supplier 1: Digi-Key; Supplier Part Number 1: 399-9604-2-ND; ComponentLink1Description: Datasheet; ComponentLink1URL: http://www.kemet.com/Lists/ProductCatalog/Attachments/57/F3115.pdf; ComponentLink2Description: Digi-Key listing; ComponentLink2URL: http://digikey.com/product-detail/en/Z0402C241ASMST/399-9604-2-ND/3674010; Price: 0.0421; Device Package: 0402 (1005 Metric); Current Rating: 400mA
footprint FER 0402/1005
pins: 1, 2

## Z0402C330ASMST
designator FB?, comment 33 Ohm @ 100MHz
FERRITE CHIP 33 OHM 700MA 0402; Part Number: Z0402C330ASMST; Manufacturer: Kemet; Type: Differential Mode - Single; DC Resistance: 100 mOhm Max; PartId: 6542; Value: 33 Ohm @ 100MHz; Supplier 1: Digi-Key; Supplier Part Number 1: 399-9605-2-ND; ComponentLink1Description: Datasheet; ComponentLink1URL: http://www.kemet.com/Lists/ProductCatalog/Attachments/57/F3115.pdf; ComponentLink2Description: Digi-Key listing; ComponentLink2URL: http://digikey.com/product-detail/en/Z0402C330ASMST/399-9605-2-ND/3674068; Price: 0.0421; Device Package: 0402 (1005 Metric); Current Rating: 700mA
footprint FER 0402/1005
pins: 1, 2

## Z0402C601ESMST
designator FB?, comment 600 Ohm @ 100MHz
FERRITE CHIP 600 OHM 300MA 0402; Part Number: Z0402C601ESMST; Manufacturer: Kemet; Type: Differential Mode - Single; DC Resistance: 600 mOhm Max; PartId: 6543; Value: 600 Ohm @ 100MHz; Supplier 1: Digi-Key; Supplier Part Number 1: 399-9606-2-ND; ComponentLink1Description: Datasheet; ComponentLink1URL: http://www.kemet.com/Lists/ProductCatalog/Attachments/57/F3115.pdf; ComponentLink2Description: Digi-Key listing; ComponentLink2URL: http://digikey.com/product-detail/en/Z0402C601ESMST/399-9606-2-ND/3674072; Price: 0.0421; Device Package: 0402 (1005 Metric); Current Rating: 300mA
footprint FER 0402/1005
pins: 1, 2